# Altium footprint library QFN.PcbLib: 20 footprints (part 2 of 2)
Each footprint in its own frame and in the unit in brackets; x right, y up, seen from the top. Pads: shape width x height; smd on the part's side, far side on the other; paste and mask are expansions set on the pad; w line width, h text height; cw(c..) or ccw(c..) is an arc to the next point about the centre after c.
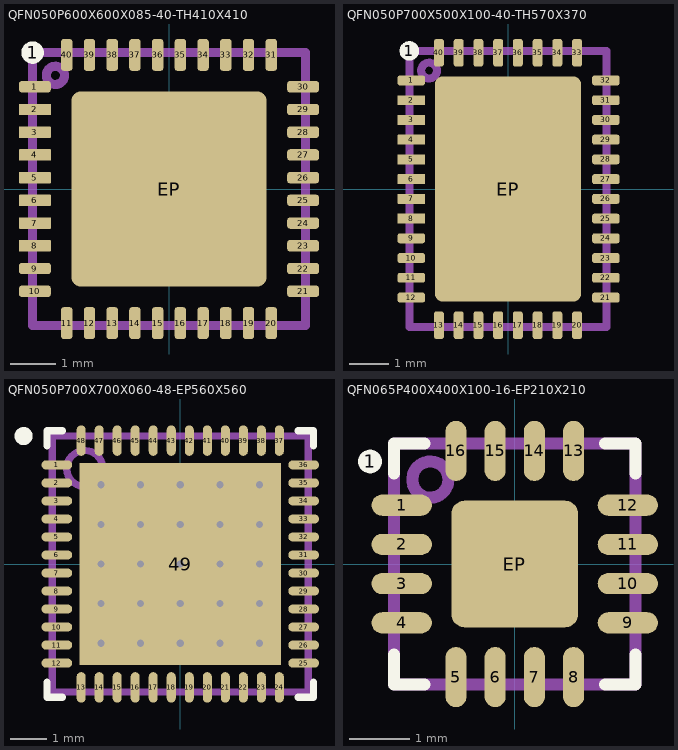
[diagram p1: the footprints below, top view; thin cyan lines are the x and y axes]

## QFN050P600X600X085-40-TH410X410 [mm]
pads (42):
  round 0.5 on Top Overlay: 1(-3,3)
  rrect50% 0.7x0.25 smd mask+0.038: 1(-2.95,2.25) 9(-2.95,-1.75) 10(-2.95,-2.25) 21(2.95,-2.25) 22(2.95,-1.75) 23(2.95,-1.25) 24(2.95,-0.75) 25(2.95,-0.25) 26(2.95,0.25) 27(2.95,0.75) 28(2.95,1.25) 29(2.95,1.75) 30(2.95,2.25)
  rrect10% 0.7x0.25 smd mask+0.038: 2(-2.95,1.75) 3(-2.95,1.25) 4(-2.95,0.75) 5(-2.95,0.25) 6(-2.95,-0.25) 7(-2.95,-0.75) 8(-2.95,-1.25)
  rrect50% 0.25x0.7 smd mask+0.038: 11(-2.25,-2.95) 12(-1.75,-2.95) 13(-1.25,-2.95) 14(-0.75,-2.95) 15(-0.25,-2.95) 16(0.25,-2.95) 17(0.75,-2.95) 18(1.25,-2.95) 19(1.75,-2.95) 20(2.25,-2.95) 31(2.25,2.95) 32(1.75,2.95) 33(1.25,2.95) 34(0.75,2.95) 35(0.25,2.95) 36(-0.25,2.95) 37(-0.75,2.95) 38(-1.25,2.95) 39(-1.75,2.95) 40(-2.25,2.95)
  rrect10% 4.3x4.3 smd mask+0.038: EP(0,0)
Top Assembly:
  circle w0.2: c-2.5,2.5 r0.2
  lines w0.2: -3,-3 -3,3 3,3 3,-3 -3,-3
3D body "QFN050P600X600X085-40-TH410X410.stp": height 0.86, standoff 0, extent -3.005,-3.005 3.005,3.005

## QFN050P700X500X100-40-TH570X370 [mm]
pads (42):
  round 0.5 on Top Overlay: 1(-2.5,3.5)
  rrect50% 0.7x0.25 smd mask+0.038: 1(-2.45,2.75) 9(-2.45,-1.25) 10(-2.45,-1.75) 11(-2.45,-2.25) 12(-2.45,-2.75) 21(2.48,-2.75) 22(2.48,-2.25) 23(2.48,-1.75) 24(2.48,-1.25) 25(2.48,-0.75) 26(2.48,-0.25) 27(2.48,0.25) 28(2.48,0.75) 29(2.48,1.25) 30(2.48,1.75) 31(2.48,2.25) 32(2.48,2.75)
  rrect10% 0.7x0.25 smd mask+0.038: 2(-2.45,2.25) 3(-2.45,1.75) 4(-2.45,1.25) 5(-2.45,0.75) 6(-2.45,0.25) 7(-2.45,-0.25) 8(-2.45,-0.75)
  rrect50% 0.25x0.7 smd mask+0.038: 13(-1.75,-3.45) 14(-1.25,-3.45) 15(-0.75,-3.45) 16(-0.25,-3.45) 17(0.25,-3.45) 18(0.75,-3.45) 19(1.25,-3.45) 20(1.75,-3.45) 33(1.75,3.45) 34(1.25,3.45) 35(0.75,3.45) 36(0.25,3.45) 37(-0.25,3.45) 38(-0.75,3.45) 39(-1.25,3.45) 40(-1.75,3.45)
  rrect10% 3.7x5.7 smd mask+0.038: EP(0,0)
Top Assembly:
  circle w0.2: c-2,3 r0.2
  lines w0.2: -2.5,-3.5 -2.5,3.5 2.5,3.5 2.5,-3.5 -2.5,-3.5
3D body "QFN050P700X500X100-40-TH570X370.stp": height 1.01, standoff 0, extent -2.51,-3.51 2.51,3.51

## QFN050P700X700X060-48-EP560X560 [mm] "QFN, 48-Leads, Body 7.00x7.00mm, Pitch 0.50mm, Thermal Pad 5.60x5.60mm, IPC Medium Density"
height 0.6
pads (49):
  oval 0.85x0.25 smd: 1(-3.425,2.75) 2(-3.425,2.25) 3(-3.425,1.75) 4(-3.425,1.25) 5(-3.425,0.75) 6(-3.425,0.25) 7(-3.425,-0.25) 8(-3.425,-0.75) 9(-3.425,-1.25) 10(-3.425,-1.75) 11(-3.425,-2.25) 12(-3.425,-2.75) 25(3.425,-2.75) 26(3.425,-2.25) 27(3.425,-1.75) 28(3.425,-1.25) 29(3.425,-0.75) 30(3.425,-0.25) 31(3.425,0.25) 32(3.425,0.75) 33(3.425,1.25) 34(3.425,1.75) 35(3.425,2.25) 36(3.425,2.75)
  oval 0.25x0.85 smd: 13(-2.75,-3.425) 14(-2.25,-3.425) 15(-1.75,-3.425) 16(-1.25,-3.425) 17(-0.75,-3.425) 18(-0.25,-3.425) 19(0.25,-3.425) 20(0.75,-3.425) 21(1.25,-3.425) 22(1.75,-3.425) 23(2.25,-3.425) 24(2.75,-3.425) 37(2.75,3.425) 38(2.25,3.425) 39(1.75,3.425) 40(1.25,3.425) 41(0.75,3.425) 42(0.25,3.425) 43(-0.25,3.425) 44(-0.75,3.425) 45(-1.25,3.425) 46(-1.75,3.425) 47(-2.25,3.425) 48(-2.75,3.425)
  rect 5.6x5.6 smd: 49(0,0)
via 2.2,-2.2 diameter 0.5 hole 0.2
via 1.1,-2.2 diameter 0.5 hole 0.2
via 0,-2.2 diameter 0.5 hole 0.2
via -1.1,-2.2 diameter 0.5 hole 0.2
via -2.2,-2.2 diameter 0.5 hole 0.2
via 2.2,-1.1 diameter 0.5 hole 0.2
via 1.1,-1.1 diameter 0.5 hole 0.2
via 0,-1.1 diameter 0.5 hole 0.2
via -1.1,-1.1 diameter 0.5 hole 0.2
via -2.2,-1.1 diameter 0.5 hole 0.2
via 2.2,0 diameter 0.5 hole 0.2
via 1.1,0 diameter 0.5 hole 0.2
via 0,0 diameter 0.5 hole 0.2
via -1.1,0 diameter 0.5 hole 0.2
via -2.2,0 diameter 0.5 hole 0.2
via 2.2,1.1 diameter 0.5 hole 0.2
via 1.1,1.1 diameter 0.5 hole 0.2
via 0,1.1 diameter 0.5 hole 0.2
via -1.1,1.1 diameter 0.5 hole 0.2
via -2.2,1.1 diameter 0.5 hole 0.2
via 2.2,2.2 diameter 0.5 hole 0.2
via 1.1,2.2 diameter 0.5 hole 0.2
via 0,2.2 diameter 0.5 hole 0.2
via -1.1,2.2 diameter 0.5 hole 0.2
via -2.2,2.2 diameter 0.5 hole 0.2
Top Overlay:
  circle w0.25: c-4.35,3.55 r0.125
  lines w0.2: -3.7,-3.275 -3.7,-3.7 -3.275,-3.7 ; -3.7,3.275 -3.7,3.7 -3.275,3.7 ; 3.275,-3.7 3.7,-3.7 3.7,-3.275 ; 3.275,3.7 3.7,3.7 3.7,3.275
Top Assembly:
  circle w0.2: c-2.65,2.65 r0.5
  lines w0.2: -3.55,-3.55 3.55,-3.55 3.55,3.55 -3.55,3.55 -3.55,-3.55
3D body "QFN50P700X700X060-49EP.step": height 0.6, standoff 0, extent -3.56,-3.56 3.56,3.56

## QFN065P400X400X100-16-EP210X210 [mm]
pads (18):
  round 0.4 on Top Overlay: 1(-2.4,1.7)
  oval 1x0.35 smd: 1(-1.875,0.975) 2(-1.875,0.325) 3(-1.875,-0.325) 4(-1.875,-0.975) 9(1.875,-0.975) 10(1.875,-0.325) 11(1.875,0.325) 12(1.875,0.975)
  oval 0.35x1 smd: 5(-0.975,-1.875) 6(-0.325,-1.875) 7(0.325,-1.875) 8(0.975,-1.875) 13(0.975,1.875) 14(0.325,1.875) 15(-0.325,1.875) 16(-0.975,1.875)
  rrect20% 2.1x2.1 smd: EP(0,0)
Top Overlay:
  lines w0.2: -2,-1.5 -2,-2 -1.5,-2 ; -2,1.5 -2,2 -1.5,2 ; 1.5,-2 2,-2 2,-1.5 ; 1.5,2 2,2 2,1.5
Top Assembly:
  circle w0.2: c-1.4,1.4 r0.3
  lines w0.2: -2,-2 2,-2 2,2 -2,2 -2,-2
3D body: height 0.2, standoff 0, extent 1.375,0.8 2.01,1.15
3D body: height 1.01, standoff 1, extent -1.8,1.2 -1.2,1.8
3D body: height 1, standoff 0.03, extent -2,-2 2,2
3D body: height 0.2, standoff 0, extent -1.05,-1.05 1.05,1.05
3D body: height 0.2, standoff 0, extent 1.375,0.15 2.01,0.5
3D body: height 0.2, standoff 0, extent 1.375,-0.5 2.01,-0.15
3D body: height 0.2, standoff 0, extent 1.375,-1.15 2.01,-0.8
3D body: height 0.2, standoff 0, extent -1.15,1.375 -0.8,2.01
3D body: height 0.2, standoff 0, extent -0.5,1.375 -0.15,2.01
3D body: height 0.2, standoff 0, extent 0.15,1.375 0.5,2.01
3D body: height 0.2, standoff 0, extent 0.8,1.375 1.15,2.01
3D body: height 0.2, standoff 0, extent -2.01,-1.15 -1.375,-0.8
3D body: height 0.2, standoff 0, extent -2.01,-0.5 -1.375,-0.15
3D body: height 0.2, standoff 0, extent -2.01,0.15 -1.375,0.5
3D body: height 0.2, standoff 0, extent -2.01,0.8 -1.375,1.15
3D body: height 0.2, standoff 0, extent 0.8,-2.01 1.15,-1.375
3D body: height 0.2, standoff 0, extent 0.15,-2.01 0.5,-1.375
3D body: height 0.2, standoff 0, extent -0.5,-2.01 -0.15,-1.375
3D body: height 0.2, standoff 0, extent -1.15,-2.01 -0.8,-1.375